# EAGLE library part TA07 (library IUTV3)
5x7 LED Segment Displays: Row = Cathode
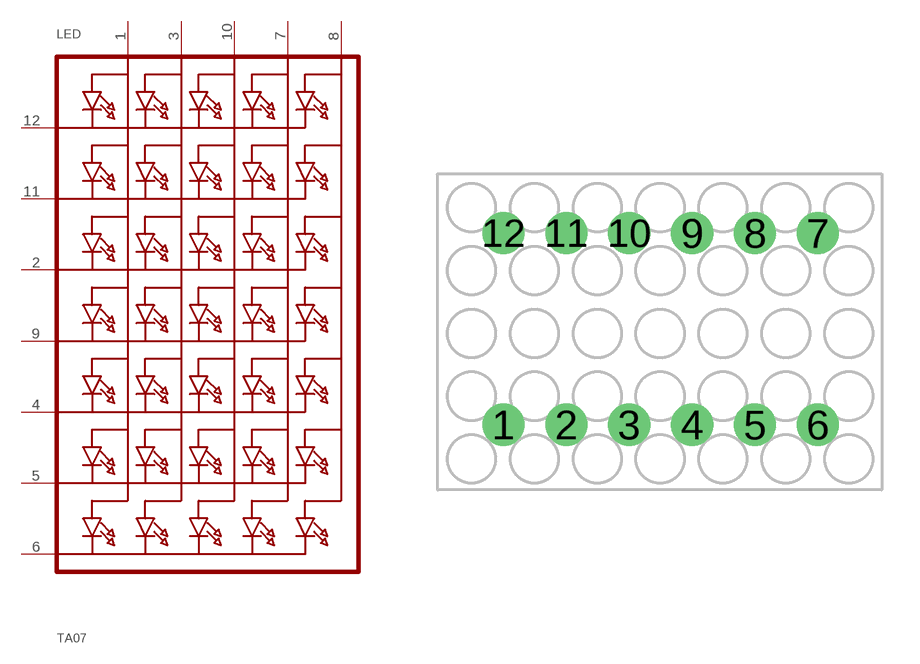
[diagram p50: symbol with the pads of SEGMENTS_5_7; footprint SEGMENTS_5_7]

Designator prefix LED

## TA07  [SEGMENTS_5_7]
1  C1
2  R3
3  C2
4  R5
5  R6
6  R7
7  C4
8  C5
9  R4
10  C3
11  R2
12  R1

## Footprint SEGMENTS_5_7 (pad centres in mm)
drill 0.8 pad 1.676: 1 -7.48,0.12; 2 -4.98,0.12; 3 -2.48,0.12; 4 0.02,0.12; 5 2.52,0.12; 6 5.02,0.12; 7 5.02,7.74; 8 2.52,7.74; 9 0.02,7.74; 10 -2.48,7.74; 11 -4.98,7.74; 12 -7.48,7.74